# EAGLE library part TQ2SA-5V (library user relay)
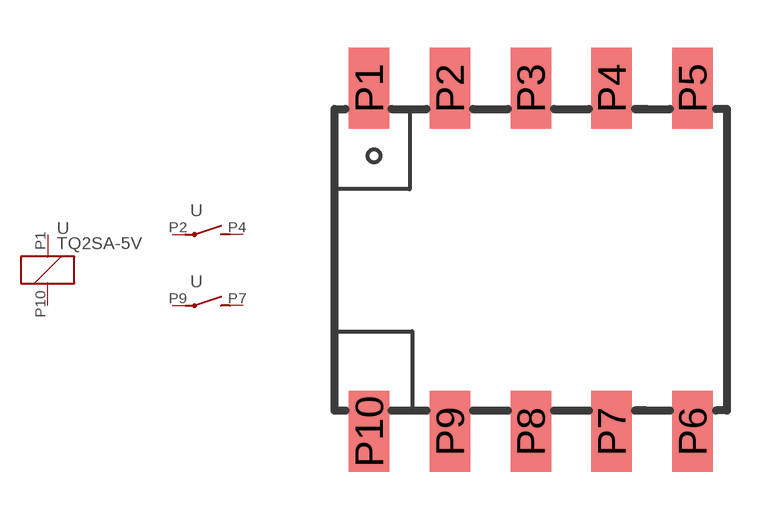
[diagram p0: symbol with the pads of NAISTQ2SA; footprint NAISTQ2SA]

Designator prefix -; gates G$1=COIL G$2=CONTACTS G$3=CONTACTS

## TQ2SA-5V  [NAISTQ2SA]
P1  G$1:1  pas
P2  G$2:P  pas
P4  G$2:S  pas
P7  G$3:S  pas
P9  G$3:P  pas
P10  G$1:10  pas

## Footprint NAISTQ2SA (pad centres in mm)
smd 1.27 x 2.54: P1 0.635,10.16; P2 3.175,10.16; P3 5.715,10.16; P4 8.255,10.16; P5 10.795,10.16; P6 10.795,-0.635; P7 8.255,-0.635; P8 5.715,-0.635; P9 3.175,-0.635; P10 0.635,-0.635